# Altium schematic symbol library buzzer_sch.SchLib: 1 symbol
Pins are listed as number, name and electrical type; pins without a type are passive.

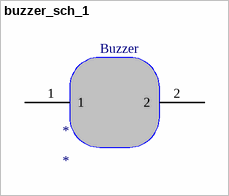
[diagram p0: symbol buzzer_sch_1]

## buzzer_sch_1
designator *
footprint buzzer_pcb_1
pins: 1, 2
text: Buzzer